# Altium footprint library 3-JST-Connector.PcbLib: 21 footprints (part 1 of 2)
Each footprint in its own frame and in the unit in brackets; x right, y up, seen from the top. Pads: shape width x height; smd on the part's side, far side on the other; paste and mask are expansions set on the pad; w line width, h text height; cw(c..) or ccw(c..) is an arc to the next point about the centre after c.
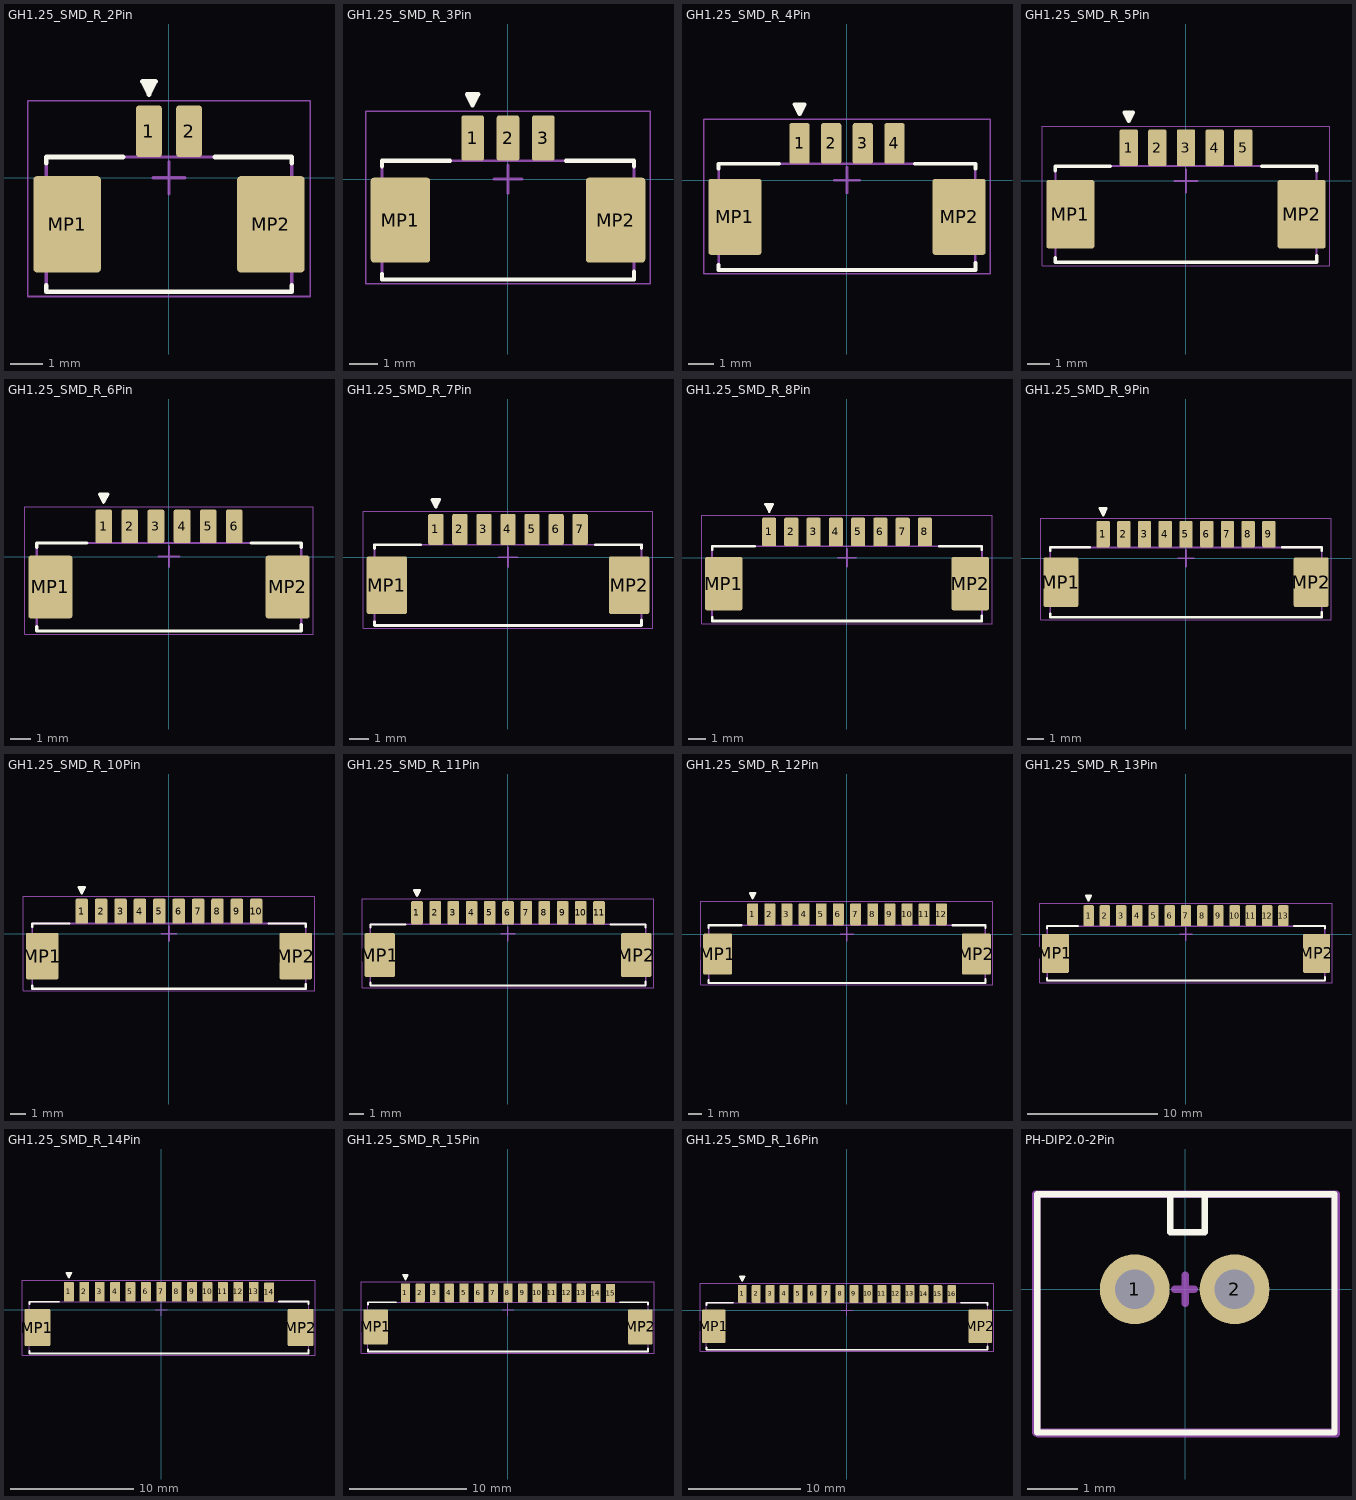
[diagram p0: the footprints below, top view; thin cyan lines are the x and y axes]

## GH1.25_SMD_R_2Pin [mm]
pads (4):
  rrect20% 0.8x1.6 smd: 1(-0.625,1.45) 2(0.625,1.45)
  rrect10% 2.1x3 smd: MP1(-3.175,-1.45) MP2(3.175,-1.45)
Top Overlay:
  region: -0.425,3 -0.825,3 -0.625,2.6
  lines w0.15: -3.825,-3.35 -3.825,-3.55 3.825,-3.55 3.825,-3.35 ; -3.825,0.45 -3.825,0.65 -1.425,0.65 ; 1.425,0.65 3.825,0.65 3.825,0.45 ; -0.825,3 -0.425,3 -0.625,2.6 -0.825,3
Assembly Notes:
  text ".Designator" at -1.27,-1.27 h0.6
Mechanical 13:
  lines w0.1: -3.825,-3.55 -3.825,0.65 3.825,0.65 3.825,-3.55 -3.825,-3.55
Mechanical 15:
  lines w0.05: -4.4,-3.7 -4.4,2.4 4.4,2.4 4.4,-3.7 -4.4,-3.7
  lines w0.1: -0.5,0 0.5,0 ; 0,-0.5 0,0.5
3D body "532610271.stp": height 3.4, standoff 0, extent -3.825,-3.55 3.825,1.65

## GH1.25_SMD_R_3Pin [mm]
pads (5):
  rrect20% 0.8x1.6 smd: 1(-1.25,1.45) 2(0,1.45) 3(1.25,1.45)
  rrect10% 2.1x3 smd: MP1(-3.8,-1.45) MP2(3.8,-1.45)
Top Overlay:
  region: -1.05,3 -1.45,3 -1.25,2.6
  lines w0.15: -4.45,-3.35 -4.45,-3.55 4.45,-3.55 4.45,-3.275 ; -4.45,0.45 -4.45,0.65 -2.05,0.65 ; 2.05,0.65 4.45,0.65 4.45,0.45 ; -1.45,3 -1.05,3 -1.25,2.6 -1.45,3
Assembly Notes:
  text ".Designator" at -1.125,-0.975 h0.6
Mechanical 13:
  lines w0.1: 3.6,0.65 -4.45,0.65 -4.45,-3.55 4.45,-3.55 4.45,0.65 3.6,0.65 ; 3.6,0.65 3.6,0.65
Mechanical 15:
  lines w0.05: -5.025,-3.7 -5.025,2.4 5.025,2.4 5.025,-3.7 -5.025,-3.7
  lines w0.1: -0.5,0 0.5,0 ; 0,-0.5 0,0.5
3D body "JST - GH - SMD (R) - 3Pin - 1.25mm.stp": height 3.53, standoff 0, extent -4.539,-3.602 4.539,1.744

## GH1.25_SMD_R_4Pin [mm]
pads (6):
  rrect20% 0.8x1.6 smd: 1(-1.875,1.45) 2(-0.625,1.45) 3(0.625,1.45) 4(1.875,1.45)
  rrect10% 2.1x3 smd: MP1(-4.425,-1.45) MP2(4.425,-1.45)
Top Overlay:
  region: -1.675,3 -2.075,3 -1.875,2.6
  lines w0.15: -5.075,-3.35 -5.075,-3.55 5.075,-3.55 ; -5.075,0.45 -5.075,0.65 -2.675,0.65 ; 2.675,0.65 5.075,0.65 5.075,0.45 ; 5.075,-3.538 5.075,-3.263 ; -2.075,3 -1.875,2.6 -1.675,3 -2.075,3
Assembly Notes:
  text ".Designator" at -0.95,-0.975 h0.6
Mechanical 13:
  lines w0.1: 2.975,0.65 4.025,0.65 5.075,0.65 5.075,-3.55 -5.075,-3.55 -5.075,0.65 2.975,0.65 ; 2.975,0.65 2.975,0.65
Mechanical 15:
  lines w0.05: -5.65,-3.7 5.65,-3.7 5.65,2.4 -5.65,2.4 -5.65,-3.7
  lines w0.1: -0.5,0 0.5,0 ; 0,-0.5 0,0.5
3D body "JST - GH - SMD (R) - 4Pin - 1.25mm.stp": height 3.53, standoff 0, extent -5.139,-3.602 5.189,1.745

## GH1.25_SMD_R_5Pin [mm]
pads (7):
  rrect20% 0.8x1.6 smd: 1(-2.5,1.45) 2(-1.25,1.45) 3(0,1.45) 4(1.25,1.45) 5(2.5,1.45)
  rrect10% 2.1x3 smd: MP1(-5.05,-1.45) MP2(5.05,-1.45)
Top Overlay:
  region: -2.3,3 -2.7,3 -2.5,2.6
  lines w0.15: -5.7,-3.35 -5.7,-3.55 5.7,-3.55 ; -5.7,0.45 -5.7,0.65 -3.3,0.65 ; 3.3,0.65 5.7,0.65 5.7,0.45 ; 5.7,-3.538 5.7,-3.263 ; -2.7,3 -2.5,2.6 -2.3,3 -2.7,3
Assembly Notes:
  text ".Designator" at -1.1,-0.95 h0.6
Mechanical 13:
  lines w0.1: 2.35,0.65 3.4,0.65 4.875,0.65 5.7,0.65 5.7,-3.55 -5.7,-3.55 -5.7,0.65 2.35,0.65 ; 2.35,0.65 2.35,0.65
Mechanical 15:
  lines w0.05: -6.275,-3.7 6.275,-3.7 6.275,2.4 -6.275,2.4 -6.275,-3.7
  lines w0.1: -0.5,0 0.5,0 ; 0,-0.5 0,0.5
3D body "JST - GH - SMD (R) - 5Pin - 1.25mm.stp": height 3.53, standoff 0, extent -5.789,-3.602 5.789,1.745

## GH1.25_SMD_R_6Pin [mm]
pads (8):
  rrect20% 0.8x1.6 smd: 1(-3.125,1.45) 2(-1.875,1.45) 3(-0.625,1.45) 4(0.625,1.45) 5(1.875,1.45) 6(3.125,1.45)
  rrect10% 2.1x3 smd: MP1(-5.675,-1.45) MP2(5.675,-1.45)
Top Overlay:
  region: -2.925,3 -3.325,3 -3.125,2.6
  lines w0.15: -6.325,-3.35 -6.325,-3.55 6.325,-3.55 ; -6.325,0.45 -6.325,0.65 -3.925,0.65 ; 3.925,0.65 6.325,0.65 6.325,0.45 ; 6.325,-3.533 6.325,-3.258 ; -3.325,3 -3.125,2.6 -2.925,3 -3.325,3
Assembly Notes:
  text ".Designator" at -1.075,-1.025 h0.6
Mechanical 13:
  lines w0.1: 1.725,0.65 2.775,0.65 4.25,0.65 6.325,0.65 6.325,-3.55 -6.325,-3.55 -6.325,0.65 1.725,0.65 ; 1.725,0.65 1.725,0.65
Mechanical 15:
  lines w0.05: -6.9,-3.7 6.9,-3.7 6.9,2.4 -6.9,2.4 -6.9,-3.7
  lines w0.1: -0.5,0 0.5,0 ; 0,-0.5 0,0.5
3D body "JST - GH - SMD (R) - 6Pin - 1.25mm.stp": height 3.53, standoff 0, extent -6.389,-3.602 6.439,1.745

## GH1.25_SMD_R_7Pin [mm]
pads (9):
  rrect20% 0.8x1.6 smd: 1(-3.75,1.45) 2(-2.5,1.45) 3(-1.25,1.45) 4(0,1.45) 5(1.25,1.45) 6(2.5,1.45) 7(3.75,1.45)
  rrect10% 2.1x3 smd: MP1(-6.3,-1.45) MP2(6.3,-1.45)
Top Overlay:
  region: -3.55,3 -3.95,3 -3.75,2.6
  lines w0.15: -6.95,-3.35 -6.95,-3.55 6.95,-3.55 ; -6.95,0.45 -6.95,0.65 -4.55,0.65 ; 4.55,0.65 6.95,0.65 6.95,0.45 ; 6.95,-3.538 6.95,-3.263 ; -3.95,3 -3.55,3 -3.75,2.6 -3.95,3
Assembly Notes:
  text ".Designator" at -1.075,-0.975 h0.6
Mechanical 13:
  lines w0.1: 1.1,0.65 -6.95,0.65 -6.95,-3.55 6.95,-3.55 6.95,0.65 6.275,0.65 3.625,0.65 2.15,0.65 1.1,0.65 ; 1.1,0.65 1.1,0.65
Mechanical 15:
  lines w0.05: -7.525,-3.7 -7.525,2.4 7.525,2.4 7.525,-3.7 -7.525,-3.7
  lines w0.1: -0.5,0 0.5,0 ; 0,-0.5 0,0.5
3D body "JST - GH - SMD (R) - 7Pin - 1.25mm.stp": height 3.53, standoff 0, extent -7.014,-3.652 7.064,1.695

## GH1.25_SMD_R_8Pin [mm]
pads (10):
  rrect20% 0.8x1.6 smd: 1(-4.375,1.45) 2(-3.125,1.45) 3(-1.875,1.45) 4(-0.625,1.45) 5(0.625,1.45) 6(1.875,1.45) 7(3.125,1.45) 8(4.375,1.45)
  rrect10% 2.1x3 smd: MP1(-6.925,-1.45) MP2(6.925,-1.45)
Top Overlay:
  region: -4.175,3 -4.575,3 -4.375,2.6
  lines w0.15: -7.575,-3.35 -7.575,-3.55 7.575,-3.55 ; -7.575,0.45 -7.575,0.65 -5.175,0.65 ; 5.175,0.65 7.575,0.65 7.575,0.45 ; 7.575,-3.538 7.575,-3.263 ; -4.575,3 -4.175,3 -4.375,2.6 -4.575,3
Assembly Notes:
  text ".Designator" at -0.85,-1 h0.6
Mechanical 13:
  lines w0.1: 0.475,0.65 -7.575,0.65 -7.575,-3.55 7.575,-3.55 7.575,0.65 3,0.65 1.525,0.65 0.475,0.65 ; 0.475,0.65 0.475,0.65
Mechanical 15:
  lines w0.05: -8.15,-3.7 -8.15,2.4 8.15,2.4 8.15,-3.7 -8.15,-3.7
  lines w0.1: -0.5,0 0.5,0 ; 0,-0.5 0,0.5
3D body "JST - GH - SMD (R) - 8Pin - 1.25mm.stp": height 3.53, standoff 0, extent -7.664,-3.602 7.664,1.745

## GH1.25_SMD_R_9Pin [mm]
pads (11):
  rrect20% 0.8x1.6 smd: 1(-5,1.45) 2(-3.75,1.45) 3(-2.5,1.45) 4(-1.25,1.45) 5(0,1.45) 6(1.25,1.45) 7(2.5,1.45) 8(3.75,1.45) 9(5,1.45)
  rrect10% 2.1x3 smd: MP1(-7.55,-1.45) MP2(7.55,-1.45)
Top Overlay:
  region: -4.8,3 -5.2,3 -5,2.6
  lines w0.15: -8.2,-3.35 -8.2,-3.55 8.2,-3.55 ; -8.2,0.45 -8.2,0.65 -5.8,0.65 ; 5.8,0.65 8.2,0.65 8.2,0.45 ; 8.2,-3.538 8.2,-3.263 ; -5.2,3 -4.8,3 -5,2.6 -5.2,3
Assembly Notes:
  text ".Designator" at -1.175,-0.975 h0.6
Mechanical 13:
  lines w0.1: -0.15,0.65 -8.2,0.65 -8.2,-3.55 8.2,-3.55 8.2,0.65 2.375,0.65 0.9,0.65 -0.15,0.65 ; -0.15,0.65 -0.15,0.65
Mechanical 15:
  lines w0.05: -8.775,-3.7 -8.775,2.4 8.775,2.4 8.775,-3.7 -8.775,-3.7
  lines w0.1: -0.5,0 0.5,0 ; 0,-0.5 0,0.5
3D body "JST - GH - SMD (R) - 9Pin - 1.25mm.stp": height 3.53, standoff 0, extent -8.289,-3.627 8.289,1.719

## GH1.25_SMD_R_10Pin [mm]
pads (12):
  rrect20% 0.8x1.6 smd: 1(-5.625,1.45) 2(-4.375,1.45) 3(-3.125,1.45) 4(-1.875,1.45) 5(-0.625,1.45) 6(0.625,1.45) 7(1.875,1.45) 8(3.125,1.45) 9(4.375,1.45) 10(5.625,1.45)
  rrect10% 2.1x3 smd: MP1(-8.175,-1.45) MP2(8.175,-1.45)
Top Overlay:
  region: -5.425,3 -5.825,3 -5.625,2.6
  lines w0.15: -8.825,-3.35 -8.825,-3.55 8.825,-3.55 ; -8.825,0.45 -8.825,0.65 -6.425,0.65 ; 6.425,0.65 8.825,0.65 8.825,0.45 ; 8.825,-3.538 8.825,-3.263 ; -5.825,3 -5.425,3 -5.625,2.6 -5.825,3
Assembly Notes:
  text ".Designator" at -1.15,-1.05 h0.6
Mechanical 13:
  lines w0.1: -0.775,0.65 -8.825,0.65 -8.825,-3.55 8.825,-3.55 8.825,0.65 1.75,0.65 0.275,0.65 -0.775,0.65 ; -0.775,0.65 -0.775,0.65
Mechanical 15:
  lines w0.05: -9.4,-3.7 -9.4,2.4 8.675,2.4 9.4,2.4 9.4,-3.7 -9.4,-3.7
  lines w0.1: -0.5,0 0.5,0 ; 0,-0.5 0,0.5
3D body "JST - GH - SMD (R) - 10Pin - 1.25mm.stp": height 3.53, standoff 0, extent -8.889,-3.627 8.939,1.719

## GH1.25_SMD_R_11Pin [mm]
pads (13):
  rrect20% 0.8x1.6 smd: 1(-6.25,1.45) 2(-5,1.45) 3(-3.75,1.45) 4(-2.5,1.45) 5(-1.25,1.45) 6(0,1.45) 7(1.25,1.45) 8(2.5,1.45) 9(3.75,1.45) 10(5,1.45) 11(6.25,1.45)
  rrect10% 2.1x3 smd: MP1(-8.8,-1.45) MP2(8.8,-1.45)
Top Overlay:
  region: -6.05,3 -6.45,3 -6.25,2.6
  lines w0.15: -9.45,-3.35 -9.45,-3.55 9.45,-3.55 ; -9.45,0.45 -9.45,0.65 -7.05,0.65 ; 7.05,0.65 9.45,0.65 9.45,0.45 ; 9.45,-3.538 9.45,-3.263 ; -6.45,3 -6.25,2.6 -6.05,3 -6.45,3
Assembly Notes:
  text ".Designator" at -1.05,-1.1 h0.6
Mechanical 13:
  lines w0.1: -1.4,0.65 -0.35,0.65 1.125,0.65 9.45,0.65 9.45,-3.55 -9.45,-3.55 -9.45,0.65 -1.4,0.65 ; -1.4,0.65 -1.4,0.65
Mechanical 15:
  lines w0.05: -10.025,-3.7 -10.025,2.4 8.375,2.4 10.025,2.4 10.025,-3.7 -10.025,-3.7
  lines w0.1: -0.5,0 0.5,0 ; 0,-0.5 0,0.5
3D body "JST - GH - SMD (R) - 11Pin - 1.25mm.stp": height 3.53, standoff 0, extent -9.539,-3.627 9.539,1.72

## GH1.25_SMD_R_12Pin [mm]
pads (14):
  rrect20% 0.8x1.6 smd: 1(-6.875,1.45) 2(-5.625,1.45) 3(-4.375,1.45) 4(-3.125,1.45) 5(-1.875,1.45) 6(-0.625,1.45) 7(0.625,1.45) 8(1.875,1.45) 9(3.125,1.45) 10(4.375,1.45) 11(5.625,1.45) 12(6.875,1.45)
  rrect10% 2.1x3 smd: MP1(-9.425,-1.45) MP2(9.425,-1.45)
Top Overlay:
  region: -6.675,3 -7.075,3 -6.875,2.6
  lines w0.15: -10.075,-3.35 -10.075,-3.55 10.075,-3.55 ; -10.075,0.45 -10.075,0.65 -7.675,0.65 ; 7.675,0.65 10.075,0.65 10.075,0.45 ; 10.075,-3.537 10.075,-3.262 ; -7.075,3 -6.875,2.6 -6.675,3 -7.075,3
Assembly Notes:
  text ".Designator" at -1.325,-1.025 h0.6
Mechanical 13:
  lines w0.1: -2.025,0.65 -0.975,0.65 0.5,0.65 10.075,0.65 10.075,-3.55 -10.075,-3.55 -10.075,0.65 -2.025,0.65 ; -2.025,0.65 -2.025,0.65
Mechanical 15:
  lines w0.05: -10.65,-3.7 10.62,-3.7 10.62,2.4 7.75,2.4 -10.65,2.4 -10.65,-3.7
  lines w0.1: -0.5,0 0.5,0 ; 0,-0.5 0,0.5
3D body "JST - GH - SMD (R) - 12Pin - 1.25mm.stp": height 3.53, standoff 0, extent -10.139,-3.652 10.189,1.695

## GH1.25_SMD_R_13Pin [mm]
pads (15):
  rrect20% 0.8x1.6 smd: 1(-7.5,1.45) 2(-6.25,1.45) 3(-5,1.45) 4(-3.75,1.45) 5(-2.5,1.45) 6(-1.25,1.45) 7(0,1.45) 8(1.25,1.45) 9(2.5,1.45) 10(3.75,1.45) 11(5,1.45) 12(6.25,1.45) 13(7.5,1.45)
  rrect10% 2.1x3 smd: MP1(-10.05,-1.45) MP2(10.05,-1.45)
Top Overlay:
  region: -7.3,3 -7.7,3 -7.5,2.6
  lines w0.15: -10.7,-3.35 -10.7,-3.55 10.7,-3.55 ; -10.7,0.45 -10.7,0.65 -8.3,0.65 ; 8.3,0.65 10.7,0.65 10.7,0.45 ; 10.7,-3.538 10.7,-3.263 ; -7.7,3 -7.5,2.6 -7.3,3 -7.7,3
Assembly Notes:
  text ".Designator" at -1.275,-1.05 h0.6
Mechanical 13:
  lines w0.1: -2.65,0.65 -1.6,0.65 -0.125,0.65 10.7,0.65 10.7,-3.55 -10.7,-3.55 -10.7,0.65 -2.65,0.65 ; -2.65,0.65 -2.65,0.65
Mechanical 15:
  lines w0.05: 10.3,2.4 11.245,2.4 11.245,-3.7 -11.275,-3.7 -11.275,2.4 7.125,2.4 10.3,2.4 ; 10.3,2.4 10.3,2.4
  lines w0.1: -0.5,0 0.5,0 ; 0,-0.5 0,0.5
3D body "JST - GH - SMD (R) - 13Pin - 1.25mm.stp": height 3.53, standoff 0, extent -10.789,-3.652 10.789,1.695

## GH1.25_SMD_R_14Pin [mm]
pads (16):
  rrect20% 0.8x1.6 smd: 1(-7.5,1.45) 2(-6.25,1.45) 3(-5,1.45) 4(-3.75,1.45) 5(-2.5,1.45) 6(-1.25,1.45) 7(0,1.45) 8(1.25,1.45) 9(2.5,1.45) 10(3.75,1.45) 11(5,1.45) 12(6.25,1.45) 13(7.5,1.45) 14(8.75,1.425)
  rrect10% 2.1x3 smd: MP1(-10.05,-1.45) MP2(11.3,-1.45)
Top Overlay:
  region: -7.3,3 -7.7,3 -7.5,2.6
  lines w0.15: -10.7,-3.35 -10.7,-3.55 11.95,-3.55 ; -10.7,0.45 -10.7,0.65 -8.3,0.65 ; 9.553,0.651 11.953,0.651 11.953,0.451 ; 11.95,-3.538 11.95,-3.263 ; -7.7,3 -7.3,3 -7.5,2.6 -7.7,3
Assembly Notes:
  text ".Designator" at -1.275,-1.05 h0.6
Mechanical 13:
  lines w0.1: -2.65,0.65 -10.7,0.65 -10.7,-3.55 11.95,-3.55 11.95,0.65 -0.125,0.65 -1.6,0.65 -2.65,0.65 ; -2.65,0.65 -2.65,0.65
Mechanical 15:
  lines w0.05: -11.275,-3.7 -11.275,2.4 7.125,2.4 10.3,2.4 12.1,2.4 12.495,2.4 12.495,-3.7 -11.275,-3.7
  lines w0.1: -0.5,0 0.5,0 ; 0,-0.5 0,0.5
3D body "JST - GH - SMD (R) - 14Pin - 1.25mm.stp": height 3.53, standoff 0, extent -10.789,-3.602 12.039,1.745

## GH1.25_SMD_R_15Pin [mm]
pads (17):
  rrect20% 0.8x1.6 smd: 1(-8.75,1.45) 2(-7.5,1.45) 3(-6.25,1.45) 4(-5,1.45) 5(-3.75,1.45) 6(-2.5,1.45) 7(-1.25,1.45) 8(0,1.45) 9(1.25,1.45) 10(2.5,1.45) 11(3.75,1.45) 12(5,1.45) 13(6.25,1.45) 14(7.5,1.425) 15(8.75,1.425)
  rrect10% 2.1x3 smd: MP1(-11.3,-1.45) MP2(11.3,-1.45)
Top Overlay:
  region: -8.55,3 -8.95,3 -8.75,2.6
  lines w0.15: -11.95,-3.35 -11.95,-3.55 11.95,-3.55 ; -11.95,0.45 -11.95,0.65 -9.55,0.65 ; 9.55,0.65 11.95,0.65 11.95,0.45 ; 11.95,-3.538 11.95,-3.263 ; -8.95,3 -8.55,3 -8.75,2.6 -8.95,3
Assembly Notes:
  text ".Designator" at -1.225,-1.025 h0.6
Mechanical 13:
  lines w0.1: -3.9,0.65 -11.95,0.65 -11.95,-3.55 11.95,-3.55 11.95,0.65 11.475,0.65 -1.375,0.65 -2.85,0.65 -3.9,0.65 ; -3.9,0.65 -3.9,0.65
Mechanical 15:
  lines w0.05: 12.495,-3.7 12.495,2.4 10.85,2.4 9.05,2.4 5.875,2.4 -12.525,2.4 -12.525,-3.7 12.5,-3.7
  lines w0.1: -0.5,0 0.5,0 ; 0,-0.5 0,0.5
3D body "JST - GH - SMD (R) - 15Pin - 1.25mm.stp": height 3.53, standoff 0, extent -12.039,-3.652 12.039,1.695

## GH1.25_SMD_R_16Pin [mm]
pads (18):
  rrect20% 0.8x1.6 smd: 1(-9.375,1.45) 2(-8.125,1.45) 3(-6.875,1.45) 4(-5.625,1.45) 5(-4.375,1.45) 6(-3.125,1.45) 7(-1.875,1.45) 8(-0.625,1.45) 9(0.625,1.45) 10(1.875,1.45) 11(3.125,1.45) 12(4.375,1.45) 13(5.625,1.45) 14(6.875,1.425) 15(8.125,1.425) 16(9.375,1.425)
  rrect10% 2.1x3 smd: MP1(-11.925,-1.45) MP2(11.925,-1.45)
Top Overlay:
  region: -9.175,3 -9.575,3 -9.375,2.6
  lines w0.15: -12.575,-3.35 -12.575,-3.55 12.575,-3.55 ; -12.575,0.45 -12.575,0.65 -10.175,0.65 ; 10.175,0.65 12.575,0.65 12.575,0.45 ; 12.575,-3.538 12.575,-3.263 ; -9.575,3 -9.375,2.6 -9.175,3 -9.575,3
Assembly Notes:
  text ".Designator" at -0.95,-1 h0.6
Mechanical 13:
  lines w0.1: -4.525,0.65 -3.475,0.65 -2,0.65 10.85,0.65 11.725,0.65 12.575,0.65 12.575,-3.55 -12.575,-3.55 -12.575,0.65 -4.525,0.65 ; -4.525,0.65 -4.525,0.65
Mechanical 15:
  lines w0.05: -13.15,-3.7 13.12,-3.7 13.12,2.4 12.075,2.4 10.225,2.4 8.425,2.4 5.25,2.4 -13.15,2.4 -13.15,-3.7
  lines w0.1: -0.5,0 0.5,0 ; 0,-0.5 0,0.5
3D body "JST - GH - SMD (R) - 16Pin - 1.25mm.stp": height 3.53, standoff 0, extent -12.639,-3.627 12.689,1.719

## PH-DIP2.0-2Pin [mm]
pads (2):
  round 1.4 hole 0.8: 1(-1.009,0) 2(0.991,0)
Top Overlay:
  lines w0.127: -0.295,1.892 -0.295,1.143 0.39,1.143 0.39,1.892 ; -2.962,-2.87 -2.962,1.905 2.993,1.905 2.993,-2.87 -2.962,-2.87
Assembly Notes:
  lines w0.152: -2.988,-2.87 2.956,-2.87 3.007,-2.819 3.007,1.905 -2.988,1.905 -2.988,-2.87
  text ".Designator" at -2.505,-2.565 h1.52
Mechanical 15:
  lines w0.152: -0.203,0 0.178,0 ; 0,-0.279 0,0.279 ; -2.972,-2.87 -2.972,1.905 3.023,1.905 3.023,-2.896 -2.946,-2.896 -2.972,-2.87
3D body "Conn_PH-2.0_2P_TOP.stp": height 6, standoff -3.4, extent -2.95,-2.8 2.95,1.9